# Altium footprint library 110-00315-D_B1-DevKit.PcbLib: 70 footprints (part 3 of 5)
Each footprint in its own frame and in the unit in brackets; x right, y up, seen from the top. Pads: shape width x height; smd on the part's side, far side on the other; paste and mask are expansions set on the pad; w line width, h text height; cw(c..) or ccw(c..) is an arc to the next point about the centre after c.
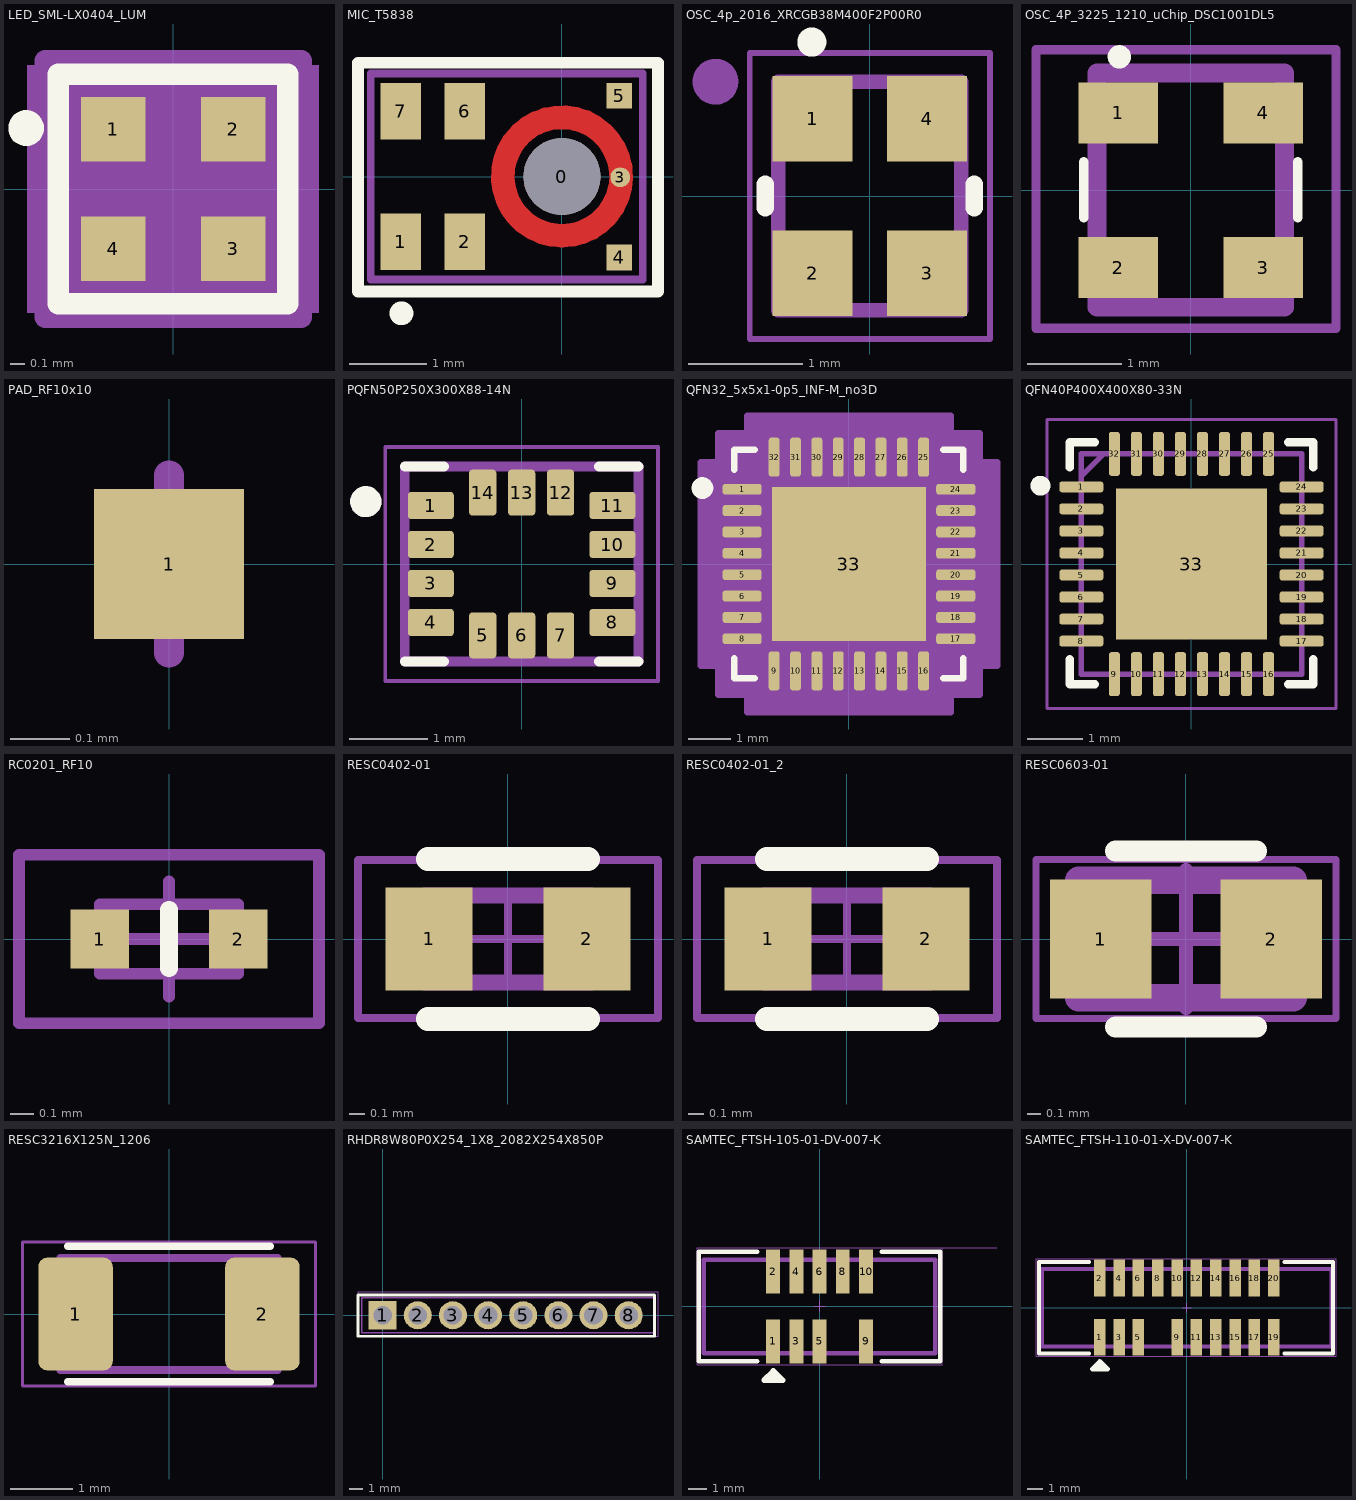
[diagram p2: the footprints below, top view; thin cyan lines are the x and y axes]

## LED_SML-LX0404_LUM [mm]
height 8.58
pads (4):
  rect 0.457x0.457 smd paste+0: 1(-0.425,0.425) 2(0.425,0.425) 3(0.425,-0.425) 4(-0.425,-0.425)
Top Overlay:
  circle w0.152: c-1.041,0.432 r0.051
  lines w0.152: -0.813,-0.813 -0.813,0.813 0.813,0.813 0.813,-0.813 -0.813,-0.813
Mechanical 5:
  region: 1.035,-0.876 -1.035,-0.876 -1.035,0.876 1.035,0.876
Mechanical 13:
  circle w0: c-0.196,0.425 r0.076
  lines w0: -0.305,0.495 ccw(c0,0.495) 0.305,0.495
  lines w0.025: -0.495,-0.495 0.495,-0.495 0.495,0.495 -0.495,0.495 -0.495,-0.495
Mechanical 15:
  region: -0.749,-0.908 -0.908,-0.908 -0.908,0.908 -0.749,0.908 0.749,0.908 0.908,0.908 0.908,-0.908 0.749,-0.908
  lines w0.152: -0.908,-0.908 -0.908,0.908 -0.749,0.908 0.749,0.908 0.908,0.908 0.908,-0.908 0.749,-0.908 -0.749,-0.908 -0.908,-0.908
3D body: height 0.33, standoff 0, extent 0.102,-0.152 0.254,0.152
3D body: height 0.33, standoff 0, extent -0.254,-0.152 -0.102,0.152
3D body: height 0.33, standoff 0, extent -0.076,-0.178 0.076,0.178
3D body: height 0.33, standoff 0, extent -0.406,0.305 -0.305,0.406
3D body "LED_SML-LX0404_LUM.step": height 0.38, standoff 0, extent -0.495,-0.495 0.495,0.495

## MIC_T5838 [mil]
pads (8):
  round 39 / inner round 0 / far side round 30 hole 39 unplated mask+4: 0(0,0)
  rect 20.55x28.54 smd: 1(-81.65,-32.99) 2(-49.29,-32.99) 6(-49.29,32.99) 7(-81.65,32.99)
  round 10 smd paste-2 mask+0: 3(29.54,-0.41)
  rect 13x13 smd: 4(29,-41) 5(29,41)
Top Layer:
  lines w5: -25.68,-8.34 ccw(c0,0) -8.34,-25.68 ; -25.68,8.34 cw(c0,0) -8.34,25.68 ; 8.34,-25.68 ccw(c0,0) 25.68,-8.34 ; 8.34,25.68 cw(c0,0) 25.68,8.34
  lines w12: 0,-30 cw(c0,0) 30,-0.41 cw(c0,0) 0,-30
Top Overlay:
  circle w10: c-81.32,-69.33 r1
  lines w6: -103.32,-58.33 48.68,-58.33 48.68,57.67 -103.32,57.67 -103.32,-58.33
Top Paste:
  lines w8: -29.54,0.41 cw(c-2.04,0.41) -21.48,19.85 ; -19.85,-21.48 ccw(c-0.41,-2.04) -0.41,-29.54 ; 0,30 cw(c0,2.5) 19.45,21.95 ; 21.48,-19.85 ccw(c2.04,-0.41) 29.54,-0.41
Top Solder:
  circle w12: c0,0 r30
Bottom Solder:
  circle w15: c0,0 r22
Mechanical 13:
  lines w3.94: -96.85,-52.17 40.94,-52.17 40.94,52.17 -96.85,52.17 -96.85,-52.17
3D body "T5838.stp": height 38.23, standoff 0, extent -96.9,-52.17 40.9,52.17

## OSC_4p_2016_XRCGB38M400F2P00R0 [mm]
height 8.58
pads (4):
  rect 0.7x0.75 smd: 1(-0.5,0.675) 2(-0.5,-0.675) 3(0.5,-0.675) 4(0.5,0.675)
Top Overlay:
  circle w0.2: c-0.508,1.346 r0.027
  lines w0.152: -0.914,-0.102 -0.914,0.102 ; 0.914,-0.102 0.914,0.102
Mechanical 13:
  circle w0.2: c-1.35,1 r0.1
  lines w0.127: -0.8,-1 0.8,-1 0.8,1 -0.8,1 -0.8,-1
Mechanical 15:
  lines w0.05: -1.05,-1.25 1.05,-1.25 1.05,1.25 -1.05,1.25 -1.05,-1.25
3D body "step_temp.STEP": height 0.7, standoff 0, extent -0.8,-1 0.8,1

## OSC_4P_3225_1210_uChip_DSC1001DL5 [mm]
height 8.58
pads (4):
  rect 0.85x0.65 smd: 1(-0.775,0.825) 2(-0.775,-0.825) 3(0.775,-0.825) 4(0.775,0.825)
Top Overlay:
  lines w0.1: -1.143,-0.295 -1.143,0.305 ; 1.143,-0.295 1.143,0.305
  lines w0.127: -0.785,1.479 ccw(c-0.762,1.422) -0.759,1.483
Mechanical 13:
  lines w0.2: -1,-1.25 1,-1.25 1,1.25 -1,1.25 -1,-1.25
Mechanical 15:
  lines w0.1: -1.651,-1.473 1.549,-1.473 1.549,1.499 -1.651,1.499 -1.651,-1.473
3D body: height 0.89, standoff 0, extent -1.016,-1.245 1.018,1.245
3D body: height 0.94, standoff 0, extent -0.914,0.965 -0.711,1.168

## PAD_RF10x10 [mil] "SMD Ghost Pad, 10mil^2"
height 12.99
pads (1):
  rect 10x10 smd: 1(0,0)
Top 3D Body:
  lines w1.97: 0,-5.91 0,5.91

## PQFN50P250X300X88-14N [mm]
height 8.58
pads (14):
  rrect25% 0.59x0.35 smd: 1(-1.165,0.75) 2(-1.165,0.25) 3(-1.165,-0.25) 4(-1.165,-0.75) 8(1.165,-0.75) 9(1.165,-0.25) 10(1.165,0.25) 11(1.165,0.75)
  rrect25% 0.35x0.59 smd: 5(-0.5,-0.915) 6(0,-0.915) 7(0.5,-0.915) 12(0.5,0.915) 13(0,0.915) 14(-0.5,0.915)
Top Overlay:
  circle w0.2: c-2,0.8 r0.1
  lines w0.127: -1.5,-1.25 -0.995,-1.25 ; -1.5,1.25 -0.995,1.25 ; 0.995,-1.25 1.5,-1.25 ; 0.995,1.25 1.5,1.25
Mechanical 13:
  circle w0.2: c-2,0.8 r0.1
  lines w0.127: -1.5,-1.25 1.5,-1.25 1.5,1.25 -1.5,1.25 -1.5,-1.25
Mechanical 15:
  lines w0.05: -1.75,-1.5 1.75,-1.5 1.75,1.5 -1.75,1.5 -1.75,-1.5
3D body "step_temp.STEP": height 0.88, standoff 0, extent -1.5,-1.25 1.5,1.25

## QFN32_5x5x1-0p5_INF-M_no3D [mil]
pads (33):
  rrect50% 36x10 smd paste+0: 1(-98.5,68.9) 2(-98.5,49.21) 3(-98.5,29.53) 4(-98.5,9.84) 5(-98.5,-9.84) 6(-98.5,-29.53) 7(-98.5,-49.21) 8(-98.5,-68.9) 17(98.5,-68.9) 18(98.5,-49.21) 19(98.5,-29.53) 20(98.5,-9.84) 21(98.5,9.84) 22(98.5,29.53) 23(98.5,49.21) 24(98.5,68.9)
  rrect50% 10x36 smd paste+0: 9(-68.9,-98.5) 10(-49.21,-98.5) 11(-29.53,-98.5) 12(-9.84,-98.5) 13(9.84,-98.5) 14(29.53,-98.5) 15(49.21,-98.5) 16(68.9,-98.5) 25(68.9,98.5) 26(49.21,98.5) 27(29.53,98.5) 28(9.84,98.5) 29(-9.84,98.5) 30(-29.53,98.5) 31(-49.21,98.5) 32(-68.9,98.5)
  rect 142x142 smd paste-70.5 mask+0: 33(0,0)
Top Overlay:
  circle w10: c-135,70 r5
  lines w6: -105.5,-87 -105.5,-105.5 -87,-105.5 ; -105.5,87 -105.5,105.5 -87,105.5 ; 87,-105.5 105.5,-105.5 105.5,-87 ; 87,105.5 105.5,105.5 105.5,87
Top Paste:
  region: 67.06,-3.94 3.94,-3.94 3.94,-67.06 67.06,-67.06
  region: 67.06,67.06 3.94,67.06 3.94,3.94 67.06,3.94
  region: -3.94,-3.94 -67.06,-3.94 -67.06,-67.06 -3.94,-67.06
  region: -3.94,67.06 -67.06,67.06 -67.06,3.94 -3.94,3.94
Mechanical 13:
  lines w1: -100.5,50.5 -50.5,100.5 ; -100.5,-100.5 -100.5,100.5 100.5,100.5 100.5,-100.5 -100.5,-100.5 ; -100.5,-74.9 -100.5,-62.9 -100.5,-74.9 ; -100.5,-55.21 -100.5,-43.21 -100.5,-55.21 ; -100.5,-35.53 -100.5,-23.53 -100.5,-35.53 ; -100.5,-15.84 -100.5,-3.84 -100.5,-15.84 ; -100.5,3.84 -100.5,15.84 -100.5,3.84 ; -100.5,23.53 -100.5,35.53 -100.5,23.53 ; -100.5,43.21 -100.5,55.21 -100.5,43.21 ; -100.5,62.9 -100.5,74.9 -100.5,62.9 ; -74.9,-100.5 -62.9,-100.5 -74.9,-100.5 ; -74.9,100.5 -62.9,100.5 -74.9,100.5 ; -55.21,-100.5 -43.21,-100.5 -55.21,-100.5 ; -55.21,100.5 -43.21,100.5 -55.21,100.5 ; -35.53,-100.5 -23.53,-100.5 -35.53,-100.5 ; -35.53,100.5 -23.53,100.5 -35.53,100.5 ; -15.84,-100.5 -3.84,-100.5 -15.84,-100.5 ; -15.84,100.5 -3.84,100.5 -15.84,100.5 ; 3.84,-100.5 15.84,-100.5 3.84,-100.5 ; 3.84,100.5 15.84,100.5 3.84,100.5 ; 23.53,-100.5 35.53,-100.5 23.53,-100.5 ; 23.53,100.5 35.53,100.5 23.53,100.5 ; 43.21,-100.5 55.21,-100.5 43.21,-100.5 ; 43.21,100.5 55.21,100.5 43.21,100.5 ; 62.9,-100.5 74.9,-100.5 62.9,-100.5 ; 62.9,100.5 74.9,100.5 62.9,100.5 ; 100.5,-74.9 100.5,-62.9 100.5,-74.9 ; 100.5,-55.21 100.5,-43.21 100.5,-55.21 ; 100.5,-35.53 100.5,-23.53 100.5,-35.53 ; 100.5,-15.84 100.5,-3.84 100.5,-15.84 ; 100.5,3.84 100.5,15.84 100.5,3.84 ; 100.5,23.53 100.5,35.53 100.5,23.53 ; 100.5,43.21 100.5,55.21 100.5,43.21 ; 100.5,62.9 100.5,74.9 100.5,62.9
  text "*" at -93,53.74 h50
Mechanical 15:
  region: -93.9,-120.5 -120.5,-120.5 -120.5,-93.9 -136.5,-93.9 -136.5,93.9 -120.5,93.9 -120.5,120.5 -93.9,120.5 -93.9,136.5 93.9,136.5 93.9,120.5 120.5,120.5 120.5,93.9 136.5,93.9 136.5,-93.9 120.5,-93.9 120.5,-120.5 93.9,-120.5 93.9,-136.5 -93.9,-136.5
  lines w6: -136.5,-93.9 -120.5,-93.9 -120.5,-120.5 -93.9,-120.5 -93.9,-136.5 93.9,-136.5 93.9,-120.5 120.5,-120.5 120.5,-93.9 136.5,-93.9 136.5,93.9 120.5,93.9 120.5,120.5 93.9,120.5 93.9,136.5 -93.9,136.5 -93.9,120.5 -120.5,120.5 -120.5,93.9 -136.5,93.9 -136.5,-93.9

## QFN40P400X400X80-33N [mm]
pads (33):
  rrect50% 0.8x0.2 smd: 1(-2,1.4) 2(-2,1) 3(-2,0.6) 4(-2,0.2) 5(-2,-0.2) 6(-2,-0.6) 7(-2,-1) 8(-2,-1.4) 17(2,-1.4) 18(2,-1) 19(2,-0.6) 20(2,-0.2) 21(2,0.2) 22(2,0.6) 23(2,1) 24(2,1.4)
  rrect50% 0.2x0.8 smd: 9(-1.4,-2) 10(-1,-2) 11(-0.6,-2) 12(-0.2,-2) 13(0.2,-2) 14(0.6,-2) 15(1,-2) 16(1.4,-2) 25(1.4,2) 26(1,2) 27(0.6,2) 28(0.2,2) 29(-0.2,2) 30(-0.6,2) 31(-1,2) 32(-1.4,2)
  rect 2.75x2.75 smd: 33(0,0)
Top Overlay:
  circle w0.2: c-2.743,1.422 r0.08
  lines w0.152: -2.21,-1.727 -2.21,-2.184 -1.753,-2.184 ; -2.21,1.753 -2.21,2.21 -1.753,2.21 ; 1.753,-2.184 2.21,-2.184 2.21,-1.727 ; 1.753,2.21 2.21,2.21 2.21,1.753
Mechanical 15:
  lines w0.1: -2,1.6 -1.6,2 ; -2,-2 -2,2 2,2 2,-2 -2,-2
Mechanical 20:
  lines w0.05: -2.625,-2.625 -2.625,2.625 2.625,2.625 2.625,-2.625 -2.625,-2.625
3D body: height 0.79, standoff 0, extent -1.753,1.245 -1.245,1.753
3D body "WM8904CGEFL_V.stp": height 0.8, standoff 0, extent -2.05,-2.05 2.05,2.05

## RC0201_RF10 [mil] "SMD Multilayer Ceramic Resistor body 0.60x0.30mm, 10mil wide pad"
height 12.99
pads (2):
  rect 10x10 smd: 1(-11.81,0) 2(11.81,0)
Top Overlay:
  lines w3: 0,-5 0,5
Top 3D Body:
  lines w1.97: -11.81,-5.91 -11.81,5.91 11.81,5.91 11.81,-5.91 -11.81,-5.91
Top Courtyard:
  lines w1.97: -9.84,0 9.84,0 ; 0,-9.84 0,9.84 ; -25.59,-14.37 25.59,-14.37 25.59,14.37 -25.59,14.37 -25.59,-14.37
3D body: height 12.99, standoff 0, extent 6,-5 11.91,5
3D body: height 12.99, standoff 0, extent -11.91,-5 -6,5
3D body: height 12.99, standoff 0, extent -7,-5 5.99,5

## RESC0402-01 [mm] "Chip Resistor, Body 1.0x0.5mm, IPC Medium Density"
height 0.4
pads (2):
  rect 0.55x0.65 smd: 1(-0.5,0) 2(0.5,0)
Top Overlay:
  lines w0.152: -0.508,-0.508 0.508,-0.508 ; -0.508,0.508 0.508,0.508
Top 3D Body:
  lines w0.1: -0.525,-0.275 -0.525,0.275 0.525,0.275 0.525,-0.275 -0.525,-0.275
Top Courtyard:
  lines w0.05: -0.275,0 0.275,0 ; 0,-0.275 0,0.275 ; -0.95,-0.5 -0.95,0.5 0.95,0.5 0.95,-0.5 -0.95,-0.5
3D body: height 0.4, standoff 0, extent 0.3,-0.275 0.525,0.275
3D body: height 0.4, standoff 0, extent -0.3,-0.275 0.3,0.275
3D body: height 0.4, standoff 0, extent -0.525,-0.275 -0.3,0.275

## RESC0402-01_2 [mm]
pads (2):
  rect 0.55x0.65 smd: 1(-0.5,0) 2(0.5,0)
Top Overlay:
  lines w0.152: -0.508,-0.508 0.508,-0.508 ; -0.508,0.508 0.508,0.508
Top 3D Body:
  lines w0.1: -0.525,-0.275 -0.525,0.275 0.525,0.275 0.525,-0.275 -0.525,-0.275
Top Courtyard:
  lines w0.05: -0.275,0 0.275,0 ; 0,-0.275 0,0.275 ; -0.95,-0.5 -0.95,0.5 0.95,0.5 0.95,-0.5 -0.95,-0.5
3D body: height 0.4, standoff 0, extent 0.3,-0.275 0.525,0.275
3D body: height 0.4, standoff 0, extent -0.3,-0.275 0.3,0.275
3D body: height 0.4, standoff 0, extent -0.525,-0.275 -0.3,0.275

## RESC0603-01 [mm]
height 5.33
pads (2):
  rect 0.735x0.862 smd: 1(-0.615,0) 2(0.615,0)
Top Overlay:
  lines w0.152: -0.508,-0.635 0.508,-0.635 ; -0.508,0.635 0.508,0.635
Top 3D Body:
  lines w0.2: -0.775,-0.425 -0.775,0.425 0.775,0.425 0.775,-0.425 -0.775,-0.425
Top Courtyard:
  lines w0.051: -1.083,-0.575 -1.083,0.575 1.083,0.575 1.083,-0.575 -1.083,-0.575
Top Component Center:
  lines w0.1: -0.5,0 0.5,0 ; 0,-0.5 0,0.5
3D body "Res_Vishay_CRCW06033M90FKEC_eec.STEP": height 0.5, standoff 0, extent -0.775,-0.425 0.775,0.425

## RESC3216X125N_1206 [mm]
height 8.58
pads (2):
  rrect25% 1.2x1.82 smd: 1(-1.505,0) 2(1.505,0)
Top Overlay:
  lines w0.127: -1.63,-1.09 1.63,-1.09 ; -1.63,1.09 1.63,1.09
Mechanical 13:
  lines w0.127: -1.75,-0.9 1.75,-0.9 1.75,0.9 -1.75,0.9 -1.75,-0.9
Mechanical 15:
  lines w0.05: -2.36,-1.16 2.36,-1.16 2.36,1.16 -2.36,1.16 -2.36,-1.16
3D body: height 1.5, standoff 0, extent -1.499,-0.813 1.473,0.813
3D body: height 1.65, standoff 0, extent -1.524,-0.838 -0.757,0.838
3D body: height 1.65, standoff 0, extent 0.864,-0.838 1.536,0.838

## RHDR8W80P0X254_1X8_2082X254X850P [mm]
pads (8):
  rect 2.025x2.025 hole 1.35: 1(0,0)
  round 2.025 hole 1.35: 2(2.54,0) 3(5.08,0) 4(7.62,0) 5(10.16,0) 6(12.7,0) 7(15.24,0) 8(17.78,0)
Top Overlay:
  lines w0.2: -1.778,-1.524 -1.778,-0.521 -1.778,0.452 -1.778,1.455 19.65,1.455 19.65,-1.524 14.102,-1.524 3.769,-1.524 -1.778,-1.524
Mechanical 13:
  lines w0.1: -1.52,-1.27 -1.52,1.27 19.65,1.27 19.65,-1.27 -1.52,-1.27
Mechanical 15:
  lines w0.05: -1.77,-1.52 -1.77,1.705 19.9,1.705 19.9,-1.52 -1.77,-1.52
3D body "PPPC081LFBN-RC.stp": height 8.5, standoff -3.5, extent -1.495,-1.194 19.325,1.346

## SAMTEC_FTSH-105-01-DV-007-K [mm]
height 8.58
pads (9):
  rect 0.76x2.4 smd: 1(-2.54,-1.905) 2(-2.54,1.905) 3(-1.27,-1.905) 4(-1.27,1.905) 5(0,-1.905) 6(0,1.905) 8(1.27,1.905) 9(2.54,-1.905) 10(2.54,1.905)
Top Overlay:
  region: -2.025,-4.025 -3.025,-4.025 -2.525,-3.525
  lines w0.254: -3.4,-3 -6.6,-3 -6.6,3 -3.4,3 ; 3.4,-3 6.6,-3 6.6,3 3.4,3
  lines w0.3: -3.025,-4.025 -2.525,-3.525 -2.025,-4.025 -3.025,-4.025
Mechanical 13:
  lines w0.254: -6.325,-2.55 6.325,-2.55 6.325,2.55 -6.325,2.55 -6.325,-2.55
Mechanical 15:
  lines w0.05: -0.3,0 0.3,0 ; 0,-0.3 0,0.3 ; -6.7,-3.2 -6.7,3.2 9.7,3.2 6.7,3.2 6.7,-3.2 -6.7,-3.2
3D body "SAMTEC_FTSH-105-01-X-DV-007-K.stp": height 6.12, standoff 0, extent -3.137,-2.921 3.137,2.921

## SAMTEC_FTSH-110-01-X-DV-007-K [mm]
height 8.58
pads (19):
  rect 0.76x2.4 smd: 1(-5.715,-1.95) 2(-5.715,1.95) 3(-4.445,-1.95) 4(-4.445,1.95) 5(-3.175,-1.95) 6(-3.175,1.95) 8(-1.905,1.95) 9(-0.635,-1.95) 10(-0.635,1.95) 11(0.635,-1.95) 12(0.635,1.95) 13(1.905,-1.95) 14(1.905,1.95) 15(3.175,-1.95) 16(3.175,1.95) 17(4.445,-1.95) 18(4.445,1.95) 19(5.715,-1.95) 20(5.715,1.95)
Top Overlay:
  region: -5.2,-4.025 -6.2,-4.025 -5.7,-3.525
  lines w0.254: -6.4,-3 -9.7,-3 -9.7,3 -6.4,3 ; 6.4,-3 9.6,-3 9.6,3 6.4,3
  lines w0.3: -6.2,-4.025 -5.7,-3.525 -5.2,-4.025 -6.2,-4.025
Mechanical 13:
  lines w0.254: -9.5,-2.55 9.5,-2.55 9.5,2.55 -9.5,2.55 -9.5,-2.55
Mechanical 15:
  lines w0.05: -0.3,0 0.3,0 ; 0,-0.3 0,0.3 ; -9.9,-3.2 -9.9,3.2 9.7,3.2 9.8,3.2 9.8,-3.2 -9.9,-3.2
3D body "FTSH-110-01-L-DV-007-K-TR.stp": height 6.1, standoff -0.03, extent -6.347,-2.918 6.353,2.924